# Altium footprint library RyanMasterLib.PcbLib: 41 footprints (part 3 of 3)
Each footprint in its own frame and in the unit in brackets; x right, y up, seen from the top. Pads: shape width x height; smd on the part's side, far side on the other; paste and mask are expansions set on the pad; w line width, h text height; cw(c..) or ccw(c..) is an arc to the next point about the centre after c.
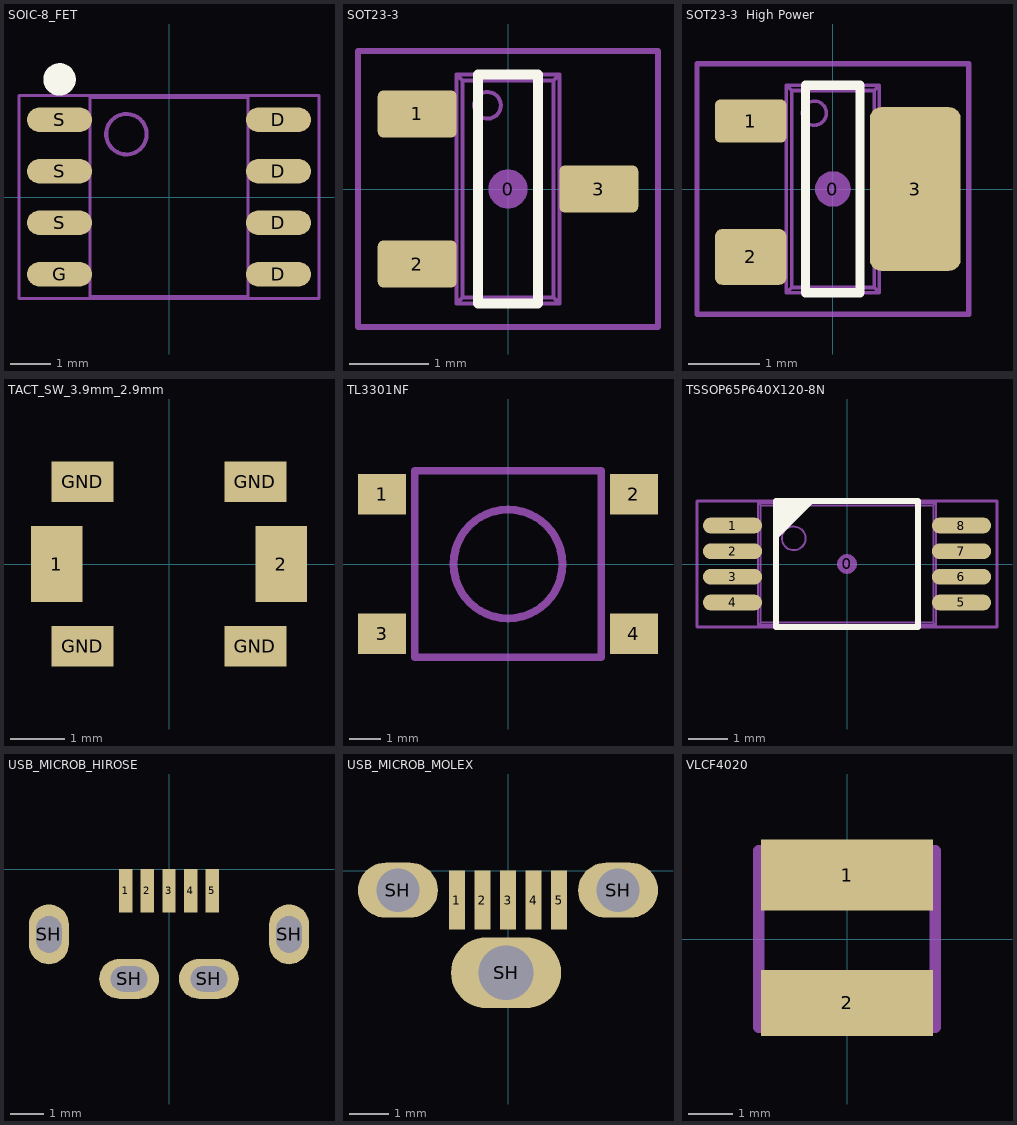
[diagram p2: the footprints below, top view; thin cyan lines are the x and y axes]

## SOIC-8_FET [mm] "SOIC, 8-Leads with thermal tab, Body 4.9x3.9mm, Pitch 1.27mm, IPC Medium Density"
height 1.75
pads (8):
  oval 1.6x0.6 smd: D(2.7,-1.905) D(2.7,-0.635) D(2.7,0.635) D(2.7,1.905) G(-2.7,-1.905) S(-2.7,-0.635) S(-2.7,0.635) S(-2.7,1.905)
Top Overlay:
  circle w0.4: c-2.7,2.9 r0.2
Mechanical 13:
  circle w0.1: c-1.05,1.55 r0.5
  lines w0.076: -1.95,-2.45 1.95,-2.45 1.95,2.45 -1.95,2.45 -1.95,-2.45
Mechanical 15:
  lines w0.076: -3.7,-2.5 3.7,-2.5 3.7,2.5 -3.7,2.5 -3.7,-2.5
3D body "SOIC-8.STEP": height 1.75, standoff 0, extent -3,-2.45 3,2.45

## SOT23-3 [mm] "SOT23, 3 pin"
height 1.003
pads (4):
  round 0.5 on Mech15: 0(0,0)
  rrect25% 1x0.6 smd: 1(-1.15,0.95) 2(-1.15,-0.95) 3(1.15,0)
Top Overlay:
  lines w0.127: -0.381,-1.45 0.381,-1.45 0.381,1.45 -0.381,1.45 -0.381,-1.45
  text "." at -2.125,0.95 h0.1
Mechanical 13:
  circle w0.05: c-0.26,1.06 r0.169
  lines w0.05: -1.19,-1.19 -1.19,-0.71 ; -1.19,0.71 -1.19,1.19 ; -1.099,-1.19 -1.099,-0.71 ; -1.099,0.71 -1.099,1.19 ; -1.074,-1.19 -1.074,-0.71 ; -1.074,0.71 -1.074,1.19 ; -0.825,-1.19 -0.825,-0.71 ; -0.825,0.71 -0.825,1.19 ; -0.65,-1.19 -1.4,-1.19 -1.4,-0.71 -0.65,-0.71 ; -0.65,0.71 -1.4,0.71 -1.4,1.19 -0.65,1.19 ; 0.65,-0.24 1.4,-0.24 1.4,0.24 0.65,0.24 ; 0.825,-0.24 0.825,0.24 ; 1.074,-0.24 1.074,0.24 ; 1.099,-0.24 1.099,0.24 ; 1.19,-0.24 1.19,0.24 ; -0.65,-1.45 -0.576,-1.376 ; -0.65,-1.45 -0.65,1.45 ; -0.65,-1.45 0.65,-1.45 ; -0.65,1.45 0.65,1.45 ; -0.65,1.45 -0.576,1.376 ; -0.576,-1.376 -0.576,1.376 ; -0.576,-1.376 0.576,-1.376 ; -0.576,1.376 0.576,1.376 ; 0.576,-1.376 0.576,1.376 ; 0.576,-1.376 0.65,-1.45 ; 0.576,1.376 0.65,1.45 ; 0.65,-1.45 0.65,1.45
Mechanical 15:
  lines w0.076: -1.9,-1.75 1.9,-1.75 1.9,1.75 -1.9,1.75 -1.9,-1.75
3D body "SOT23-3.STEP": height 1.29, standoff -0.01, extent -1.4,-1.45 1.4,1.45

## SOT23-3  High Power [mm] "SOT23, 3 pin"
height 1.003
pads (4):
  round 0.5 on Mech15: 0(0,0)
  rrect25% 1x0.6 smd: 1(-1.15,0.95)
  rrect25% 1x0.778 smd: 2(-1.15,-0.95)
  rrect25% 1.27x2.286 smd: 3(1.15,0)
Top Overlay:
  lines w0.127: -0.381,-1.45 -0.381,1.45 0.381,1.45 0.381,-1.45 -0.381,-1.45
  text "." at -2.125,0.95 h0.1
Top Solder:
  rectangle: 0.559,-0.635 1.727,0.914
Mechanical 13:
  circle w0.05: c-0.26,1.06 r0.169
  lines w0.05: -1.19,-1.19 -1.19,-0.71 ; -1.19,0.71 -1.19,1.19 ; -1.099,-1.19 -1.099,-0.71 ; -1.099,0.71 -1.099,1.19 ; -1.074,-1.19 -1.074,-0.71 ; -1.074,0.71 -1.074,1.19 ; -0.825,-1.19 -0.825,-0.71 ; -0.825,0.71 -0.825,1.19 ; -0.65,-1.19 -1.4,-1.19 -1.4,-0.71 -0.65,-0.71 ; -0.65,0.71 -1.4,0.71 -1.4,1.19 -0.65,1.19 ; 0.65,-0.24 1.4,-0.24 1.4,0.24 0.65,0.24 ; 0.825,-0.24 0.825,0.24 ; 1.074,-0.24 1.074,0.24 ; 1.099,-0.24 1.099,0.24 ; 1.19,-0.24 1.19,0.24 ; -0.65,-1.45 0.65,-1.45 ; -0.65,-1.45 -0.65,1.45 ; -0.65,-1.45 -0.576,-1.376 ; -0.65,1.45 -0.576,1.376 ; -0.65,1.45 0.65,1.45 ; -0.576,-1.376 0.576,-1.376 ; -0.576,-1.376 -0.576,1.376 ; -0.576,1.376 0.576,1.376 ; 0.576,-1.376 0.65,-1.45 ; 0.576,-1.376 0.576,1.376 ; 0.576,1.376 0.65,1.45 ; 0.65,-1.45 0.65,1.45
Mechanical 15:
  lines w0.076: -1.9,-1.75 -1.9,1.75 1.9,1.75 1.9,-1.75 -1.9,-1.75
3D body "SOT23-3.STEP": height 1.29, standoff -0.01, extent -1.4,-1.45 1.4,1.45

## TACT_SW_3.9mm_2.9mm [mm]
pads (6):
  rect 0.95x1.4 smd: 1(-2.075,0) 2(2.075,0)
  rect 1.15x0.75 smd: GND(-1.6,-1.525) GND(-1.6,1.525) GND(1.6,-1.525) GND(1.6,1.525)
3D body "TL1015AF160QG.stp": height 2.05, standoff 0.05, extent -2.25,-1.397 2.25,1.503

## TL3301NF [mm]
pads (4):
  rect 1.55x1.3 smd: 1(-4.05,2.25) 2(4.05,2.25) 3(-4.05,-2.25) 4(4.05,-2.25)
Mechanical 13:
  circle w0.254: c0,0 r1.75
  lines w0.254: -3,-3 -3,3 3,3 3,-3 -3,-3
3D body "TL3301NFxxxxG.stp": height 4.42, standoff 0.02, extent -5,-3 5,3
3D body: height 4.3, standoff 0, extent -1.749,-1.749 1.749,1.749

## TSSOP65P640X120-8N [mm] "TSSOP, 8 Leads, Body 3.1x4.5mm (max), Pitch 0.65mm, IPC Medium Density"
height 1.2
pads (9):
  round 0.508 on Mech15: 0(0,0)
  oval 1.5x0.4 smd paste-0.051: 1(-2.9,0.975) 2(-2.9,0.325) 3(-2.9,-0.325) 4(-2.9,-0.975) 5(2.9,-0.975) 6(2.9,-0.325) 7(2.9,0.325) 8(2.9,0.975)
Top Overlay:
  region: -1.8,1.6 -0.8,1.6 -1.8,0.6
  lines w0.152: -1.8,-1.6 -1.8,1.6 1.8,1.6 1.8,-1.6 -1.8,-1.6
  text "." at -2.85,1.7 h0.1
Top Solder:
  rectangle: -3.5,-1.016 -2.3,1.016
  region: 3.5,1.016 2.3,1.016 2.3,-1.016 3.5,-1.016
Mechanical 13:
  circle w0.05: c-1.35,0.65 r0.3
  lines w0.05: -2.839,-1.125 -2.839,-0.825 ; -2.839,-0.475 -2.839,-0.175 ; -2.839,0.175 -2.839,0.475 ; -2.839,0.825 -2.839,1.125 ; -2.795,-1.125 -2.795,-0.825 ; -2.795,-0.475 -2.795,-0.175 ; -2.795,0.175 -2.795,0.475 ; -2.795,0.825 -2.795,1.125 ; -2.693,-1.125 -2.693,-0.825 ; -2.693,-0.475 -2.693,-0.175 ; -2.693,0.175 -2.693,0.475 ; -2.693,0.825 -2.693,1.125 ; -2.5,-1.125 -2.5,-0.825 ; -2.5,-0.475 -2.5,-0.175 ; -2.5,0.175 -2.5,0.475 ; -2.5,0.825 -2.5,1.125 ; -2.25,-1.125 -3.25,-1.125 -3.25,-0.825 -2.25,-0.825 ; -2.25,-0.475 -3.25,-0.475 -3.25,-0.175 -2.25,-0.175 ; -2.25,0.175 -3.25,0.175 -3.25,0.475 -2.25,0.475 ; -2.25,0.825 -3.25,0.825 -3.25,1.125 -2.25,1.125 ; 2.25,-1.125 3.25,-1.125 3.25,-0.825 2.25,-0.825 ; 2.25,-0.475 3.25,-0.475 3.25,-0.175 2.25,-0.175 ; 2.25,0.175 3.25,0.175 3.25,0.475 2.25,0.475 ; 2.25,0.825 3.25,0.825 3.25,1.125 2.25,1.125 ; 2.5,-1.125 2.5,-0.825 ; 2.5,-0.475 2.5,-0.175 ; 2.5,0.175 2.5,0.475 ; 2.5,0.825 2.5,1.125 ; 2.693,-1.125 2.693,-0.825 ; 2.693,-0.475 2.693,-0.175 ; 2.693,0.175 2.693,0.475 ; 2.693,0.825 2.693,1.125 ; 2.795,-1.125 2.795,-0.825 ; 2.795,-0.475 2.795,-0.175 ; 2.795,0.175 2.795,0.475 ; 2.795,0.825 2.795,1.125 ; 2.839,-1.125 2.839,-0.825 ; 2.839,-0.475 2.839,-0.175 ; 2.839,0.175 2.839,0.475 ; 2.839,0.825 2.839,1.125 ; -2.25,-1.55 -2.25,1.55 ; -2.25,-1.55 -2.187,-1.487 ; -2.25,-1.55 2.25,-1.55 ; -2.25,1.55 2.25,1.55 ; -2.25,1.55 -2.187,1.487 ; -2.187,-1.487 -2.187,1.487 ; -2.187,-1.487 2.187,-1.487 ; -2.187,1.487 2.187,1.487 ; 2.187,-1.487 2.187,1.487 ; 2.187,-1.487 2.25,-1.55 ; 2.187,1.487 2.25,1.55 ; 2.25,-1.55 2.25,1.55
Mechanical 15:
  lines w0.076: -3.8,-1.6 -3.8,1.6 3.8,1.6 3.8,-1.6 -3.8,-1.6
3D body "TSSOP-8.STEP": height 1.19, standoff -0.01, extent -3.25,-1.55 3.25,1.55

## USB_MICROB_HIROSE [mm]
pads (9):
  rect 0.4x1.3 smd: 1(-1.3,-0.65) 2(-0.65,-0.65) 3(0,-0.65) 4(0.65,-0.65) 5(1.3,-0.65)
  oval 1.2x1.8 hole 0.762 slot 1.1 at 90 deg: SH(-3.61,-1.96) SH(3.61,-1.96)
  oval 1.8x1.2 hole 0.762 slot 1.1 at 0 deg: SH(-1.2,-3.3) SH(1.2,-3.3)
3D body "ZX80-B-5P_Color.STEP": height 7.3, standoff -0.7, extent -4.039,-4.293 4.039,-0.243

## USB_MICROB_MOLEX [mm]
pads (8):
  rect 0.4x1.5 smd: 1(-1.3,-0.75) 2(-0.65,-0.75) 3(0,-0.75) 4(0.65,-0.75) 5(1.3,-0.75)
  oval 2.032x1.4 hole 1.1: SH(-2.8,-0.5) SH(2.8,-0.5)
  oval 2.8x1.8 hole 1.397: SH(-0.05,-2.6)
3D body "1051330001.STEP": height 7.4, standoff -2.4, extent -4.025,-3.775 4,0.675

## VLCF4020 [mm]
height 2
pads (2):
  rect 3.9x1.6 smd: 1(0,1.45)
  rect 3.9x1.5 smd: 2(0,-1.45)
Mechanical 13:
  lines w0.254: -2,-2 2,-2 2,2 -2,2 -2,-2
3D body: height 2, standoff 0, extent -1.999,-1.999 1.999,1.999